# Altium footprint library PcbLib1.PcbLib: 3 footprints
Each footprint in its own frame and in the unit in brackets; x right, y up, seen from the top. Pads: shape width x height; smd on the part's side, far side on the other; paste and mask are expansions set on the pad; w line width, h text height; cw(c..) or ccw(c..) is an arc to the next point about the centre after c.
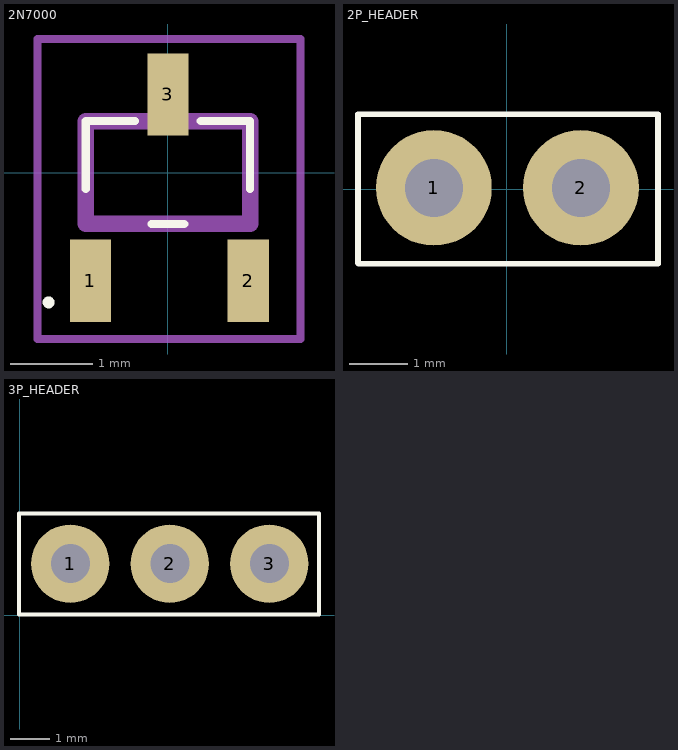
[diagram p0: the footprints below, top view; thin cyan lines are the x and y axes]

## 2N7000 [mm]
pads (3):
  rect 0.5x1 smd: 1(-0.942,-1.317) 2(0.978,-1.317) 3(0,0.95)
Top Overlay:
  circle w0.1: c-1.452,-1.58 r0.022
  lines w0.1: -1,-0.2 -1,0.625 -0.4,0.625 ; -0.2,-0.625 0.2,-0.625 ; 0.4,0.625 1,0.625 1,-0.2
Mechanical 13:
  lines w0.2: -1,-0.625 1,-0.625 1,0.625 -1,0.625 -1,-0.625
Mechanical 15:
  lines w0.1: -1.587,-2.026 1.614,-2.026 1.614,1.624 -1.587,1.624 -1.587,-2.026
3D body "TO-236AB.stp": height 1.1, standoff 0, extent -1.476,-1.427 1.524,1.173

## 2P_HEADER [mm]
pads (2):
  round 2 hole 1: 1(-1.261,0.024) 2(1.279,0.024)
Top Overlay:
  lines w0.1: 2.611,1.293 2.611,-1.288 -2.56,-1.288 -2.572,-1.276 -2.572,1.295 2.611,1.295
3D body "zl202-2_p2-54_l2-54_w5-08_h8-89.stp": height 8.89, standoff -3.05, extent -2.529,-1.262 2.551,1.278

## 3P_HEADER [mm]
pads (3):
  round 2 hole 1: 1(1.295,1.313) 2(3.835,1.313) 3(6.375,1.313)
Top Overlay:
  lines w0.1: -0.015,0.013 7.643,0.013 7.643,2.596 -0.015,2.596 -0.015,0.013
3D body "1x3 TH Vert 100mil.step": height 8.38, standoff -3.3, extent -0.025,0.025 7.595,2.565